# Altium footprint library transistors.pcblib: 31 footprints (part 2 of 2)
Each footprint in its own frame and in the unit in brackets; x right, y up, seen from the top. Pads: shape width x height; smd on the part's side, far side on the other; paste and mask are expansions set on the pad; w line width, h text height; cw(c..) or ccw(c..) is an arc to the next point about the centre after c.
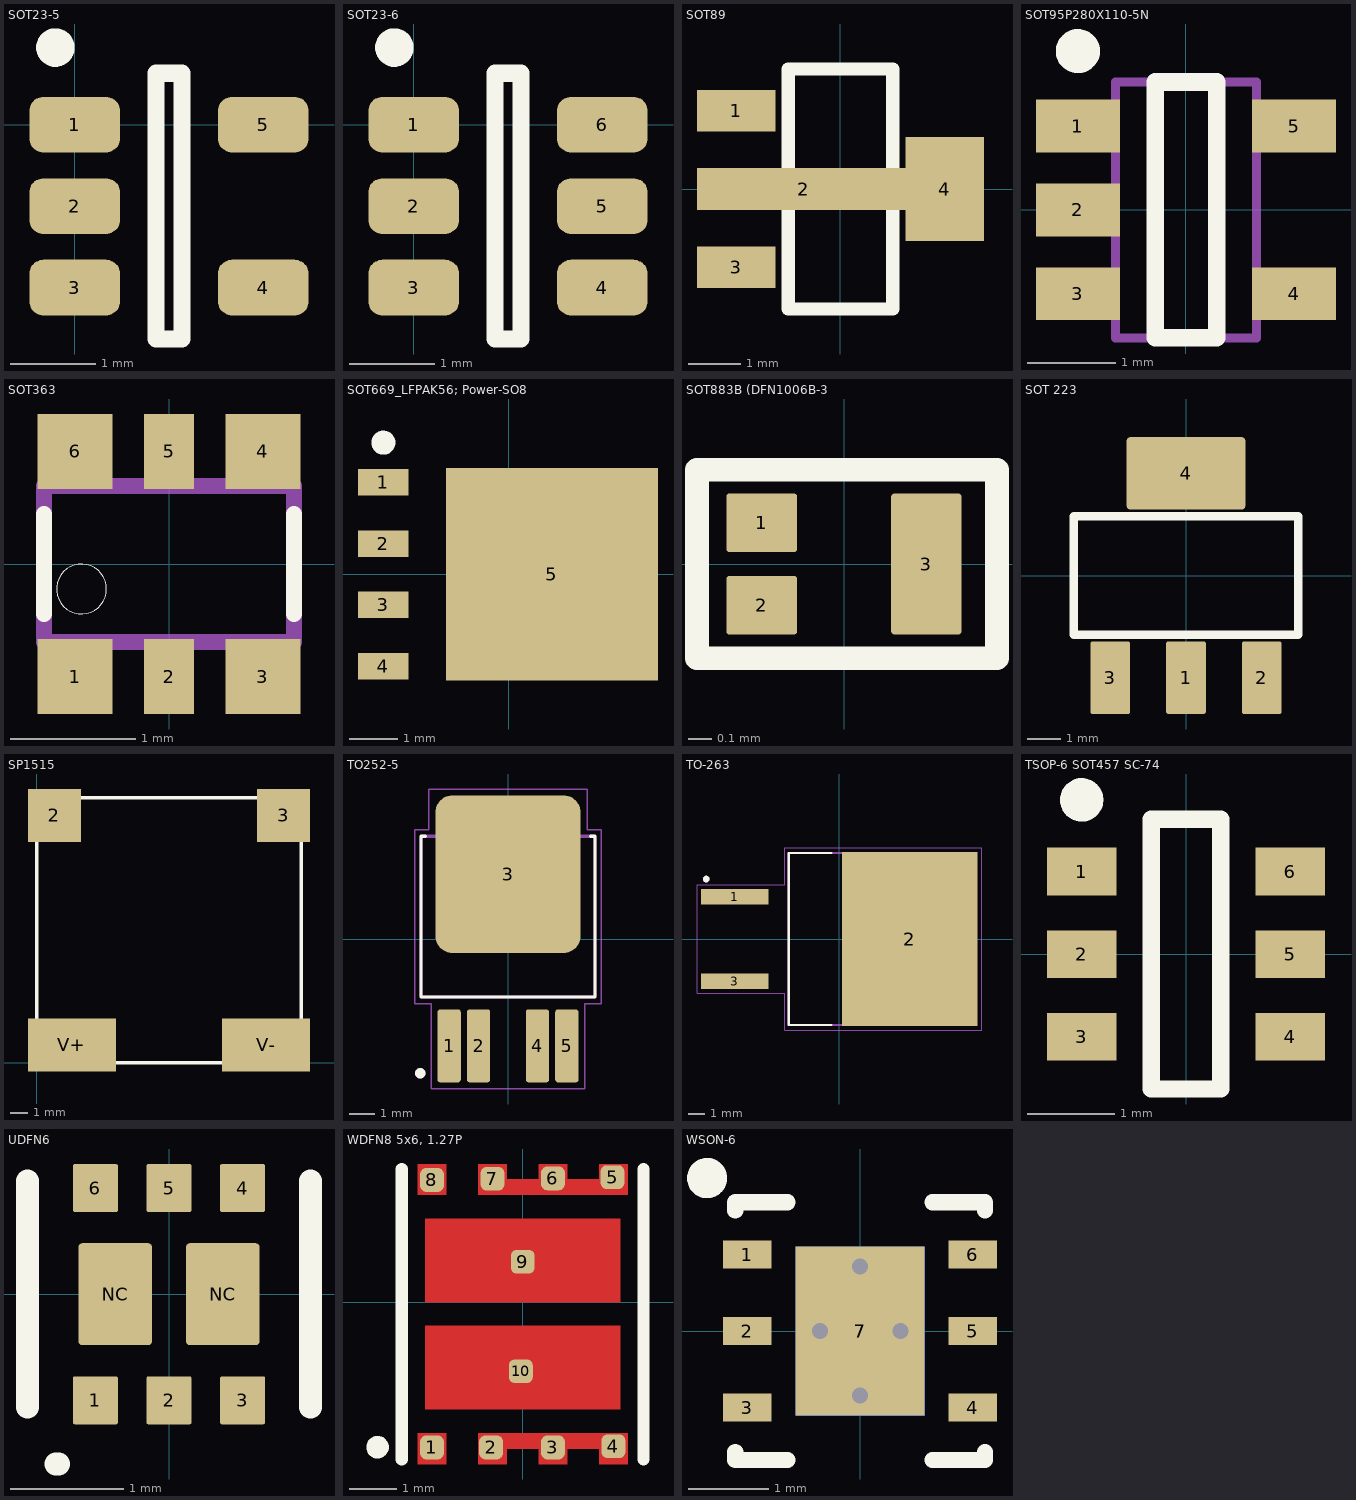
[diagram p1: the footprints below, top view; thin cyan lines are the x and y axes]

## SOT23-5 [mm]
height 3
pads (5):
  rrect50% 1.06x0.65 smd: 1(0,0) 2(0,-0.95) 3(0,-1.9) 4(2.2,-1.9) 5(2.2,0)
Top Overlay:
  circle w0.25: c-0.225,0.9 r0.1
  lines w0.2: 0.95,-2.5 1.25,-2.5 1.25,0.6 0.95,0.6 0.95,-2.5
3D body "sot235.step": height 1, standoff 0, extent -0.07,-2.41 2.27,0.51

## SOT23-6 [mm]
height 3
pads (6):
  rrect50% 1.06x0.65 smd: 1(0,0) 2(0,-0.95) 3(0,-1.9) 4(2.2,-1.9) 5(2.2,-0.95) 6(2.2,0)
Top Overlay:
  circle w0.25: c-0.225,0.9 r0.1
  lines w0.2: 0.95,-2.5 1.25,-2.5 1.25,0.6 0.95,0.6 0.95,-2.5
3D body "TSOP-6.step": height 1, standoff 0, extent -0.25,-2.45 2.45,0.55

## SOT89 [mm]
pads (4):
  rect 1.5x0.8 smd: 1(-2,1.5) 3(-2,-1.5)
  rect 4.1x0.8 smd: 2(-0.7,0)
  rect 1.5x2 smd: 4(2,0)
Top Overlay:
  lines w0.254: -1,-2.3 1,-2.3 1,2.3 -1,2.3 -1,-2.3
3D body "SOT89.STEP": height 1.59, standoff -0.02, extent -2.208,-2.285 2.042,2.315

## SOT95P280X110-5N [mm] "SOT23, 5-Leads, Body 2,90x2,80mm, Pitch 0,95mm, IPC Medium Density"
height 1.1
pads (5):
  rect 0.95x0.6 smd: 1(-1.225,0.95) 2(-1.225,0) 3(-1.225,-0.95) 4(1.225,-0.95) 5(1.225,0.95)
Top Overlay:
  circle w0.25: c-1.225,1.8 r0.125
  lines w0.2: -0.35,-1.45 0.35,-1.45 0.35,1.45 -0.35,1.45 -0.35,-1.45
Plata3D:
  lines w0.1: -0.8,-1.45 -0.8,1.45 0.8,1.45 0.8,-1.45 -0.8,-1.45
3D body: height 1.1, standoff 0.1, extent -0.8,-1.45 0.8,1.45

## SOT363 [mm]
pads (6):
  rect 0.6x0.6 smd: 1(-0.75,-0.9) 3(0.75,-0.9) 4(0.75,0.9) 6(-0.75,0.9)
  rect 0.4x0.6 smd: 2(0,-0.9) 5(0,0.9)
Top Overlay:
  circle w0: c-0.7,-0.2 r0.2
  lines w0.127: -1,-0.4 -1,0.4 ; 1,-0.4 1,0.4
Plata3D:
  region: -0.525,0.625 -0.775,0.625 -0.775,0.925 -0.525,0.925
  region: -0.525,-0.925 -0.775,-0.925 -0.775,-0.625 -0.525,-0.625
  region: 0.775,-0.925 0.525,-0.925 0.525,-0.625 0.775,-0.625
  region: 0.125,-0.925 -0.125,-0.925 -0.125,-0.625 0.125,-0.625
  region: 0.775,0.625 0.525,0.625 0.525,0.925 0.775,0.925
  region: 0.125,0.625 -0.125,0.625 -0.125,0.925 0.125,0.925
  lines w0.127: -1,-0.625 1,-0.625 1,0.625 -1,0.625 -1,-0.625
3D body "step_temp.STEP": height 1.1, standoff 0, extent -1,-1.05 1,1.05

## SOT669_LFPAK56; Power-SO8 [mm] "DPAK, 4-Leads, Body 5x4.1mm, Pitch 1.27mm, IPC Low Density"
height 1.2
pads (5):
  rect 1.05x0.55 smd: 1(-2.6,1.905) 2(-2.6,0.635) 3(-2.6,-0.635) 4(-2.6,-1.905)
  rect 4.4x4.4 smd: 5(0.9,0)
Top Overlay:
  circle w0.25: c-2.6,2.73 r0.125
3D body "User Library-SOT669-CW.step": height 1.2, standoff 0, extent -3.178,-2.45 3.25,2.45

## SOT883B (DFN1006B-3 [mm]
pads (3):
  rrect10% 0.3x0.25 smd mask+0.05: 1(-0.35,0.175)
  rrect10% 0.3x0.25 smd mask+0.04: 2(-0.35,-0.175)
  rrect10% 0.3x0.6 smd mask+0.05: 3(0.35,0)
Top Overlay:
  lines w0.1: -0.625,-0.4 -0.625,-0.35 -0.625,0.4 0.65,0.4 0.65,-0.4 -0.625,-0.4
Top Solder:
  rectangle: -0.55,0.05 -0.15,0.3
  rectangle: -0.55,-0.3 -0.15,-0.05
3D body "User Library-SOT883.step": height 0.5, standoff -0.01, extent -0.493,-0.293 0.492,0.292

## SOT 223 [mm]
pads (4):
  rrect10% 1.2x2.2 smd mask+0: 1(0,-3.1) 2(2.3,-3.1) 3(-2.3,-3.1)
  rrect10% 3.6x2.2 smd mask+0: 4(0,3.1)
Top Overlay:
  lines w0.254: -3.4,-1.8 -3.4,1.8 3.4,1.8 3.4,-1.8 0,-1.8 -3.4,-1.8
3D body "User Library-sot-223.step": height 1.64, standoff -0.04, extent -3.25,-3.466 3.25,3.466

## SP1515 [mm] "13mm 0.7w dinamic speaker"
height 4
pads (4):
  rect 3x3 smd: 2(1,14) 3(14,14)
  rect 5x3 smd: V+(2,1) V-(13,1)
Top Overlay:
  lines w0.2: 0,0 15,0 15,15 0,15 0,0

## TO252-5 [mm]
pads (5):
  rrect23% 0.9x2.83 smd: 1(-2.28,-4.14) 2(-1.14,-4.14) 4(1.14,-4.14) 5(2.28,-4.14)
  rrect23% 5.63x6.1 smd paste-4: 3(0,2.51)
Top Overlay:
  circle w0.2: c-3.4,-5.2 r0.1
  lines w0.127: -3.2,3.978 -3.37,3.978 -3.37,-2.243 3.37,-2.243 3.37,3.978 3.2,3.978
Top Paste:
  region: 1.78,0.58 -1.78,0.58 -1.78,4.44 1.78,4.44
Plata3D:
  circle w0.2: c-3.4,-5.2 r0.1
  lines w0.127: -3.37,-2.243 3.37,-2.243 3.37,3.978 -3.37,3.978 -3.37,-2.243
Board3D:
  lines w0.05: -3.62,-2.5 -3.62,4.23 -3.07,4.23 -3.07,5.81 3.07,5.81 3.07,4.23 3.62,4.23 3.62,-2.5 2.98,-2.5 2.98,-5.81 -2.98,-5.81 -2.98,-2.5 -3.62,-2.5
3D body "BTS6143D--3DModel-STEP-269445.STEP": height 2.35, standoff 0, extent -3.25,-5 3.25,4.98

## TO-263 [mm]
pads (3):
  rect 4.05x0.94 smd: 1(-6.27,2.54) 3(-6.27,-2.54)
  rect 8.12x10.48 smd paste-6: 2(4.23,0)
Top Overlay:
  circle w0.2: c-8,3.6 r0.1
  lines w0.127: -0.48,-5.16 -3.04,-5.16 -3.04,5.16 -0.48,5.16
Top Paste:
  region: 7.735,-4.915 6.145,-4.915 6.145,-3.485 7.735,-3.485
  region: 2.315,-2.815 0.725,-2.815 0.725,-1.385 2.315,-1.385
  region: 2.315,-4.915 0.725,-4.915 0.725,-3.485 2.315,-3.485
  region: 7.735,-2.815 6.145,-2.815 6.145,-1.385 7.735,-1.385
  region: 7.735,-0.715 6.145,-0.715 6.145,0.715 7.735,0.715
  region: 7.735,1.385 6.145,1.385 6.145,2.815 7.735,2.815
  region: 7.735,3.485 6.145,3.485 6.145,4.915 7.735,4.915
  region: 2.315,3.485 0.725,3.485 0.725,4.915 2.315,4.915
  region: 2.315,1.385 0.725,1.385 0.725,2.815 2.315,2.815
  region: 2.315,-0.715 0.725,-0.715 0.725,0.715 2.315,0.715
  region: 5.025,-4.915 3.435,-4.915 3.435,-3.485 5.025,-3.485
  region: 5.025,-2.815 3.435,-2.815 3.435,-1.385 5.025,-1.385
  region: 5.025,3.485 3.435,3.485 3.435,4.915 5.025,4.915
  region: 5.025,1.385 3.435,1.385 3.435,2.815 5.025,2.815
  region: 5.025,-0.715 3.435,-0.715 3.435,0.715 5.025,0.715
Plata3D:
  circle w0.2: c-8,3.6 r0.1
  lines w0.127: -3.04,-5.16 6.42,-5.16 6.42,5.16 -3.04,5.16 -3.04,-5.16
Board3D:
  lines w0.05: -8.55,-3.26 -3.29,-3.26 -3.29,-5.49 8.54,-5.49 8.54,5.49 -3.29,5.49 -3.29,3.26 -8.55,3.26 -8.55,-3.26
3D body "step_temp.STEP": height 4.83, standoff 0, extent -7.15,-5.03 8.09,5.03

## TSOP-6 SOT457 SC-74 [mm]
pads (6):
  rect 0.8x0.55 smd paste-0.05: 1(-1.2,0.95) 2(-1.2,0) 3(-1.2,-0.95) 4(1.2,-0.95) 5(1.2,0) 6(1.2,0.95)
Top Overlay:
  circle w0.25: c-1.2,1.775 r0.125
  lines w0.2: -0.4,-1.55 -0.4,1.55 0.4,1.55 0.4,-1.55 -0.4,-1.55
3D body "SOT95P275X110-6L.step": height 1.1, standoff 0, extent -1.5,-1.55 1.5,1.55

## UDFN6 [mm] "Tocshiba"
pads (8):
  rrect10% 0.4x0.425 smd mask+0.07: 1(-0.65,-0.937) 2(0,-0.937) 3(0.65,-0.937) 4(0.65,0.937) 5(0,0.937) 6(-0.65,0.937)
  rrect10% 0.65x0.9 smd mask+0.07: NC(-0.475,0) NC(0.475,0)
Top Overlay:
  lines w0.2: -1.25,-1 -1.25,1 ; -1,-1.5 -0.975,-1.5 ; 1.25,-1 1.25,1
3D body "User Library-UDFN6.step": height 0.65, standoff 0, extent -1,-1 1,1

## WDFN8 5x6, 1.27P [mm] "WDFN8 5x6, 1.27P ON semicond"
pads (10):
  rrect50% 0.5x0.5 smd paste+0 mask+0: 1(-1.905,-3.052) 2(-0.664,-3.052) 3(0.635,-3.052) 4(1.905,-3.027) 5(1.886,2.623) 6(0.635,2.598) 7(-0.635,2.591) 8(-1.905,2.565) 9(0,0.848) 10(-0.039,-1.452)
Top Layer:
  region: -2.205,2.25 -2.205,2.9 -1.605,2.9 -1.605,2.25
  region: -0.935,2.25 -0.935,2.9 -0.335,2.9 -0.335,2.575 0.335,2.575 0.335,2.9 0.935,2.9 0.935,2.575 1.605,2.575 1.605,2.9 2.205,2.9 2.205,2.25
  region: -2.05,-2.25 -2.05,-0.5 2.05,-0.5 2.05,-2.25
  region: -2.05,0 2.05,0 2.05,1.75 -2.05,1.75
  region: -1.605,-3.4 -1.605,-2.75 -2.205,-2.75 -2.205,-3.4
  region: -0.935,-3.4 -0.935,-2.75 2.205,-2.75 2.205,-3.4 1.605,-3.4 1.605,-3.075 0.935,-3.075 0.935,-3.4 0.335,-3.4 0.335,-3.075 -0.335,-3.075 -0.335,-3.4
Top Overlay:
  circle w0.254: c-3.048,-3.048 r0.11
  lines w0.254: -2.54,-3.302 -2.54,2.794 ; 2.54,-3.302 2.54,2.794
3D body "Деталь.stp": height 0.85, standoff 0, extent -2.5,-3.254 2.5,2.746

## WSON-6 [mm] "TI wson"
pads (8):
  rect 0.6x0.35 smd paste-0.175 mask+0.051: 1(-1.4,0.95) 2(-1.4,0) 3(-1.4,-0.95) 4(1.4,-0.95) 5(1.4,0) 6(1.4,0.95)
  rect 1.6x2.1 smd paste-0.8 mask+0.051: 7(0,0)
  rect 1.6x2.1 smd far side paste-0.8 mask+0.051: 7(0,0)
via -0.5,0 diameter 0.5 hole 0.2
via 0,0.8 diameter 0.5 hole 0.2
via 0.5,0 diameter 0.5 hole 0.2
via 0,-0.8 diameter 0.5 hole 0.2
Top Overlay:
  circle w0.25: c-1.9,1.9 r0.125
  lines w0.2: -1.55,-1.5 -1.55,-1.6 -0.9,-1.6 ; -1.55,1.5 -1.55,1.6 -0.9,1.6 ; 0.9,-1.6 1.55,-1.6 1.55,-1.5 ; 0.9,1.6 1.55,1.6 1.55,1.5
3D body "User Library-WSON-6.step": height 0.75, standoff 0, extent -1.51,-1.49 1.51,1.51